# EAGLE library part PIC16F818 (library pic16f818)
Microchipp Component 16F818 Francesco Cuzzupoli virtex2@virgilio.it
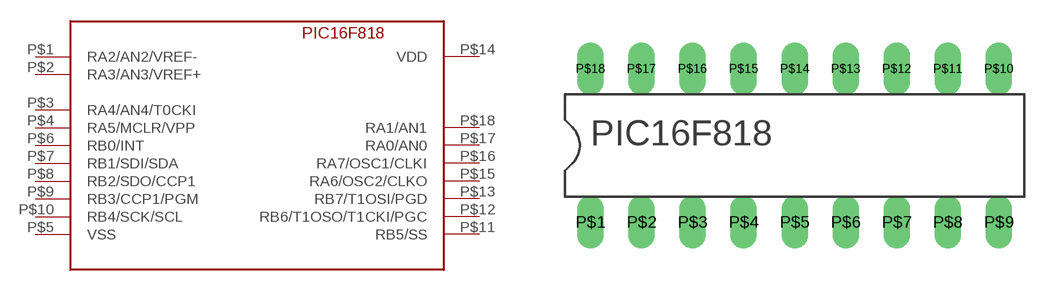
[diagram p0: symbol with the pads of PIC16F818; footprint PIC16F818]

Designator prefix PIC

## PIC16F818  [PIC16F818]
P$1  RA2/AN2/VREF-
P$2  RA3/AN3/VREF+
P$3  RA4/AN4/T0CKI
P$4  RA5/MCLR/VPP
P$5  VSS
P$6  RB0/INT
P$7  RB1/SDI/SDA
P$8  RB2/SDO/CCP1
P$9  RB3/CCP1/PGM
P$10  RB4/SCK/SCL
P$11  RB5/SS
P$12  RB6/T1OSO/T1CKI/PGC
P$13  RB7/T1OSI/PGD
P$14  VDD
P$15  RA6/OSC2/CLKO
P$16  RA7/OSC1/CLKI
P$17  RA0/AN0
P$18  RA1/AN1

## Footprint PIC16F818 (pad centres in mm)
Microchipp Component 16F818 Francesco Cuzzupoli virtex2@virgilio.it
drill 0.8 long: P$1 -8.89,-3.81; P$2 -6.35,-3.81; P$3 -3.81,-3.81; P$4 -1.27,-3.81; P$5 1.27,-3.81; P$6 3.81,-3.81; P$7 6.35,-3.81; P$8 8.89,-3.81; P$9 11.43,-3.81; P$10 11.43,3.81; P$11 8.89,3.81; P$12 6.35,3.81; P$13 3.81,3.81; P$14 1.27,3.81; P$15 -1.27,3.81; P$16 -3.81,3.81; P$17 -6.35,3.81; P$18 -8.89,3.81